# EAGLE library part LMC6802-BREAKOUT (library SolarJackets)
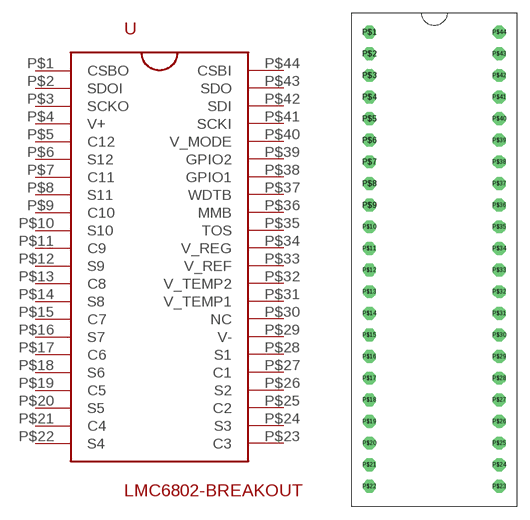
[diagram p3: symbol with the pads of LMC6802-BREAKOUT; footprint LMC6802-BREAKOUT]

Designator prefix -

## LMC6802-BREAKOUT  [LMC6802-BREAKOUT]
P$1  CSBO  out
P$2  SDOI  in
P$3  SCKO  out
P$4  V+  pwr
P$5  C12
P$6  S12
P$7  C11
P$8  S11
P$9  C10
P$10  S10
P$11  C9
P$12  S9
P$13  C8
P$14  S8
P$15  C7
P$16  S7
P$17  C6
P$18  S6
P$19  C5
P$20  S5
P$21  C4
P$22  S4
P$23  C3
P$24  S3
P$25  C2
P$26  S2
P$27  C1
P$28  S1
P$29  V-
P$30  NC  nc
P$31  V_TEMP1
P$32  V_TEMP2
P$33  V_REF
P$34  V_REG
P$35  TOS
P$36  MMB
P$37  WDTB
P$38  GPIO1
P$39  GPIO2
P$40  V_MODE  pwr
P$41  SCKI  in
P$42  SDI  in
P$43  SDO  out
P$44  CSBI  in

## Footprint LMC6802-BREAKOUT (pad centres in mm)
drill 1 octagon: P$1 -7.62,30.48; P$2 -7.62,27.94; P$3 -7.62,25.4; P$4 -7.62,22.86; P$5 -7.62,20.32; P$6 -7.62,17.78; P$7 -7.62,15.24; P$8 -7.62,12.7; P$9 -7.62,10.16; P$10 -7.62,7.62; P$11 -7.62,5.08; P$12 -7.62,2.54; P$13 -7.62,0; P$14 -7.62,-2.54; P$15 -7.62,-5.08; P$16 -7.62,-7.62; P$17 -7.62,-10.16; P$18 -7.62,-12.7; P$19 -7.62,-15.24; P$20 -7.62,-17.78; P$21 -7.62,-20.32; P$22 -7.62,-22.86; P$23 7.62,-22.86; P$24 7.62,-20.32; P$25 7.62,-17.78; P$26 7.62,-15.24; P$27 7.62,-12.7; P$28 7.62,-10.16; P$29 7.62,-7.62; P$30 7.62,-5.08; P$31 7.62,-2.54; P$32 7.62,0; P$33 7.62,2.54; P$34 7.62,5.08; P$35 7.62,7.62; P$36 7.62,10.16; P$37 7.62,12.7; P$38 7.62,15.24; P$39 7.62,17.78; P$40 7.62,20.32; P$41 7.62,22.86; P$42 7.62,25.4; P$43 7.62,27.94; P$44 7.62,30.48